# EAGLE library part MICROCHIP_USB2514B (library m_ic-comm)
USB2514B USB 2.0 Hi-Speed Hub Controller General Description The Microchip USB251xB/xBi hub is a family of low- power, configurable, MTT (multi transaction translator) hub controller IC products for embedded USB solutions. The x in the part number indicates the number of downstream ports available, while the B indicates battery charging support. The Microchip hub supports low-speed, full-speed, and hi-speed (if operating as a hi-speed hub) downstream devices on all of the enabled downstream ports. Highlights High performance, low-power, small footprint hub controller IC with 2, 3, or 4 downstream ports Fully compliant with the USB2.0 Specification[1] Enhanced OEM configuration options available through either a single serial I2C EEPROM, or SMBus slave port MultiTRAK High-performance multiple transaction translator which provides one transaction translator per port PortMap Flexible port mapping and disable sequencing PortSwap Programmable USB differential-pair pin locations ease PCB design by aligning USB signal lines directly to connectors PHYBoost Programmable USB signal drive strength for recovering signal integrity using 4-level driving strength resolution Features USB251xB/xBi products are fully footprint compatible with USB251x/xi/xA/xAi products as direct drop-in replacements — Cost savings include using the same PCB components and application of USB-IF Compliance by Similarity Full power management with individual or ganged power control of each downstream port Fully integrated USB termination and pull-up/pull-down resistors Supports a single external 3.3V supply source; internal regulators provide 1.2 V internal core voltage On board 24MHz crystal driver or external 24 MHz clock input 4 kilovolts of HBM JESD22-A114F ESD protection (powered and unpowered) Supports self- or bus-powered operation Supports the USB Battery Charging specification Rev. 1.1 for Charging Downstream Ports (CDP) TheUSB251xB/xBi offers the following packages: - 36-pin SQFN(6x6mm)(Preferred) - 36-pin QFN(6x6mm)(Legacy) USB251xBi products support the industrial temperature range of -40˚C to +85˚C USB251xB products support the extended commercial temperature range of 0˚C to +85˚C Data from Microchip Document DS00001692C, 2015-10-20 Octopart <https://octopart.com/search?q=USB2514B>
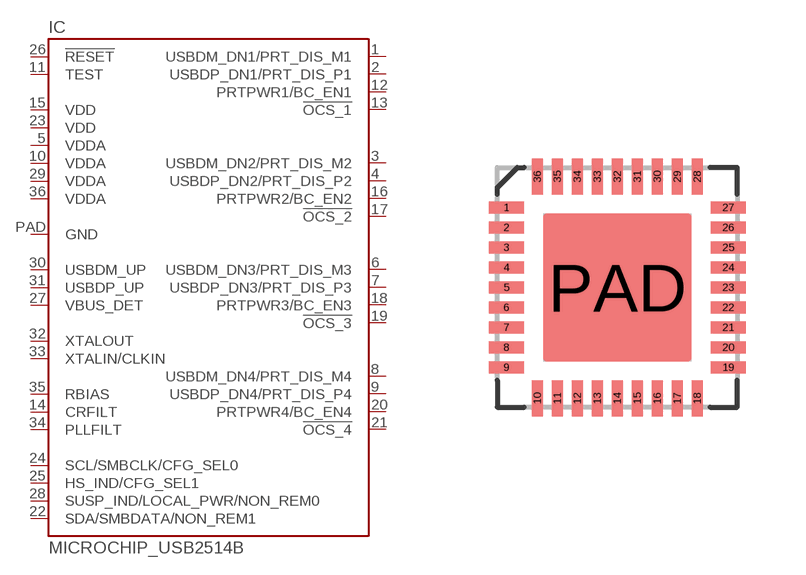
[diagram p4: symbol with the pads of SQFN-36; footprint SQFN-36]

Designator prefix IC

## MICROCHIP_USB2514B/M2 (MANUF: Microchip; PARTNUM: USB2514B/M2)  [SQFN-36]
1  USBDM_DN1/PRT_DIS_M1  pas
2  USBDP_DN1/PRT_DIS_P1  pas
3  USBDM_DN2/PRT_DIS_M2  pas
4  USBDP_DN2/PRT_DIS_P2  pas
5  VDDA  pas
6  USBDM_DN3/PRT_DIS_M3  pas
7  USBDP_DN3/PRT_DIS_P3  pas
8  USBDM_DN4/PRT_DIS_M4  pas
9  USBDP_DN4/PRT_DIS_P4  pas
10  VDDA  pas
11  TEST  pas
12  PRTPWR1/BC_EN1  pas
13  !OCS_1  pas
14  CRFILT  pas
15  VDD  pas
16  PRTPWR2/BC_EN2  pas
17  !OCS_2  pas
18  PRTPWR3/BC_EN3  pas
19  !OCS_3  pas
20  PRTPWR4/BC_EN4  pas
21  !OCS_4  pas
22  SDA/SMBDATA/NON_REM1  pas
23  VDD  pas
24  SCL/SMBCLK/CFG_SEL0  pas
25  HS_IND/CFG_SEL1  pas
26  !RESET  pas
27  VBUS_DET  pas
28  SUSP_IND/LOCAL_PWR/NON_REM0  pas
29  VDDA  pas
30  USBDM_UP  pas
31  USBDP_UP  pas
32  XTALOUT  pas
33  XTALIN/CLKIN  pas
34  PLLFILT  pas
35  RBIAS  pas
36  VDDA  pas
PAD  GND  pas

## Footprint SQFN-36 (pad centres in mm)
36-Pin SQFN Based on data from Microchip USB251xB/xBi Datasheet, Document DS00001692C, 2015-10-20
smd 0.9 x 0.28: 1 -2.775,2; 2 -2.775,1.5; 3 -2.775,1; 4 -2.775,0.5; 5 -2.775,0; 6 -2.775,-0.5; 7 -2.775,-1; 8 -2.775,-1.5; 9 -2.775,-2; 19 2.775,-2; 20 2.775,-1.5; 21 2.775,-1; 22 2.775,-0.5; 23 2.775,0; 24 2.775,0.5; 25 2.775,1; 26 2.775,1.5; 27 2.775,2
smd 0.28 x 0.9: 10 -2,-2.775; 11 -1.5,-2.775; 12 -1,-2.775; 13 -0.5,-2.775; 14 0,-2.775; 15 0.5,-2.775; 16 1,-2.775; 17 1.5,-2.775; 18 2,-2.775; 28 2,2.775; 29 1.5,2.775; 30 1,2.775; 31 0.5,2.775; 32 0,2.775; 33 -0.5,2.775; 34 -1,2.775; 35 -1.5,2.775; 36 -2,2.775
smd 3.7 x 3.7: PAD 0,0